# EAGLE library part SI1141 (library BQ25504)
AMBIENT LIGHT SENSOR
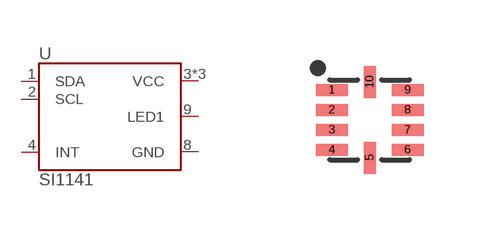
[diagram p19: symbol with the pads of QFN-10/2MM; footprint QFN-10/2MM]

Designator prefix U

## SI1141 (DIGIKEY: 336-2199-1-ND)  [QFN-10/2MM]
1  SDA
2  SCL
3  VCC
4  INT
6  VCC
7  VCC
8  GND
9  LED1

## Footprint QFN-10/2MM (pad centres in mm)
smd 0.8 x 0.3: 1 -0.95,0.75; 2 -0.95,0.25; 3 -0.95,-0.25; 4 -0.95,-0.75; 6 0.95,-0.75; 7 0.95,-0.25; 8 0.95,0.25; 9 0.95,0.75
smd 0.3 x 0.8: 5 0,-0.95; 10 0,0.95